# Altium schematic symbol library CH340C.SchLib: 1 symbol
Pins are listed as number, name and electrical type; pins without a type are passive.

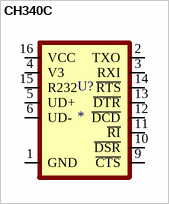
[diagram p0: symbol CH340C]

## CH340C
designator U?
Replacement for Brother P-Touch; MP: CH340C; MF: Olimex; Package: None; Price: None; Availability: In Stock; Check_prices: https://www.snapeda.com/parts/CH340C/Olimex/view-part/?ref=eda; Value: *; SnapEDA_Link: https://www.snapeda.com/parts/CH340C/Olimex/view-part/?ref=snap
footprint SO016
pins: 1 GND (io), 2 TXO (io), 3 RXI (io), 4 V3 (io), 5 UD+ (io), 6 UD- (io), 9 ~{CTS} (io), 10 ~{DSR} (io), 11 ~{RI} (io), 12 ~{DCD} (io), 13 ~{DTR} (io), 14 ~{RTS} (io), 15 R232 (io), 16 VCC (io)